# EAGLE library part 7-SEGMENT-1DIGIT-1INCH (library SparkFun-LED)
7-Segment Display, single digit, 1" EZ is for kits. Pads are only exposed on the bottom side to help prevent soldering in upside down. Datasheet (Red) <https://cdn.sparkfun.com/datasheets/Components/LED/YSD-160AR4B-8.pdf> Datasheet (Blue) <https://cdn.sparkfun.com/datasheets/Components/LED/YSD-160AB3C-8.pdf> SparkFun Products 7-Segment Display - LED (Red) <https://www.sparkfun.com/products/8546> (COM-08546) 7-Segment Display - LED (Blue) <https://www.sparkfun.com/products/9191> (COM-09191)
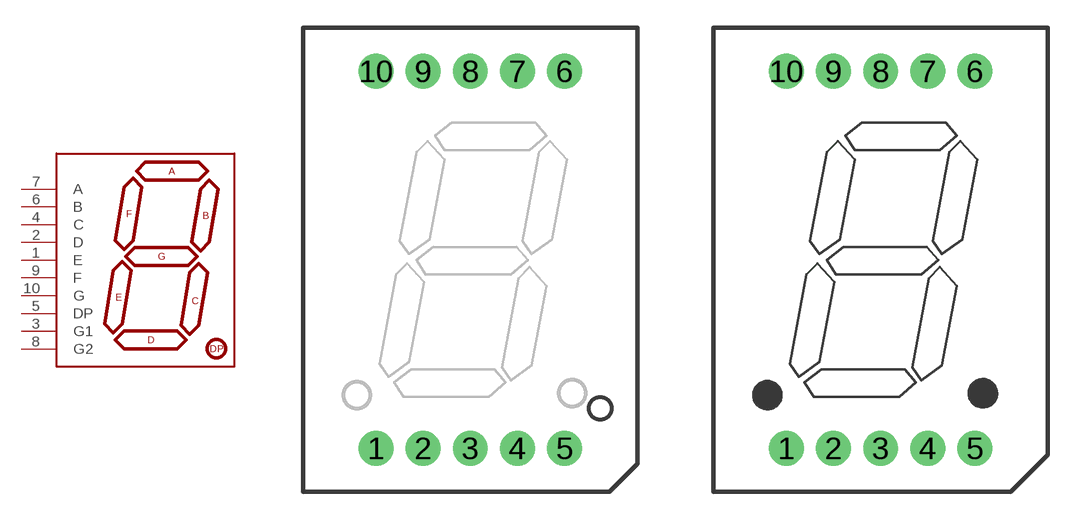
[diagram p4: symbol with the pads of 7-SEGMENT-1"PTH; footprints 7-SEGMENT-1"PTH, 7-SEGMENT-1"PTH-EZ]

Designator prefix -

## 7-SEGMENT-1DIGIT-1INCH-RED (PROD_ID: COMP-08615; VALUE: YSD-1601AR4B-8)  [7-SEGMENT-1"PTH]
1  E
2  D
3  G1
4  C
5  DP
6  B
7  A
8  G2
9  F
10  G

## 7-SEGMENT-1DIGIT-1INCH-RED-EZ (PROD_ID: COMP-08615; VALUE: YSD-1601AR4B-8)  [7-SEGMENT-1"PTH-EZ]
Pads as for 7-SEGMENT-1"PTH

## 7-SEGMENT-1DIGIT-1INCH-BLUE (PROD_ID: COMP-09495; VALUE: YSD-160AB3C-8)  [7-SEGMENT-1"PTH]
Pads as for 7-SEGMENT-1"PTH

## 7-SEGMENT-1DIGIT-1INCH-BLUE-EZ (PROD_ID: COMP-09495; VALUE: YSD-160AB3C-8)  [7-SEGMENT-1"PTH-EZ]
Pads as for 7-SEGMENT-1"PTH

## Footprint 7-SEGMENT-1"PTH (pad centres in mm)
7 Segment display Storefront SKU#: COM-08546
drill 1 pad 1.88: 1 -5.08,-10.16; 2 -2.54,-10.16; 3 0,-10.16; 4 2.54,-10.16; 5 5.08,-10.16; 6 5.08,10.16; 7 2.54,10.16; 8 0,10.16; 9 -2.54,10.16; 10 -5.08,10.16

## Footprint 7-SEGMENT-1"PTH-EZ (pad centres in mm)
drill 1 pad 1.88: 1 -5.08,-10.16; 2 -2.54,-10.16; 3 0,-10.16; 4 2.54,-10.16; 5 5.08,-10.16; 6 5.08,10.16; 7 2.54,10.16; 8 0,10.16; 9 -2.54,10.16; 10 -5.08,10.16